# Altium schematic symbol library 标准电容阵列.SchLib: 1 symbol
Pins are listed as number, name and electrical type; pins without a type are passive.

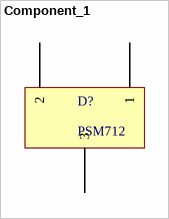
[diagram p0: symbol Component_1]

## Component_1
designator D?, comment PSM712
pins: 1, 2, 3